# Altium schematic symbol library BF820.Schlib: 1 symbol
Pins are listed as number, name and electrical type; pins without a type are passive.

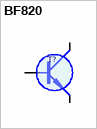
[diagram p0: symbol BF820]

## BF820
designator T?
SOT23   300V 50mA 60MHz 1.6pF(30V) (BF821)
pins: 1 B, 2 E (oe), 3 C (oc)
1 alternate drawing of the same symbol